# EAGLE library part ESP32_WEMOS_COMPACT (library Oded_Hand)
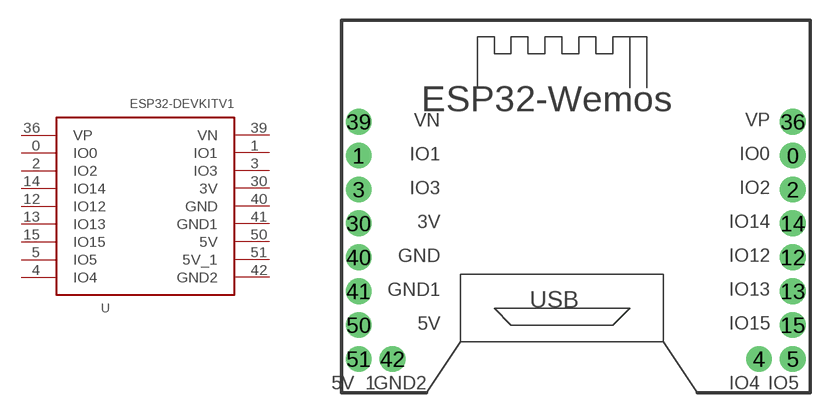
[diagram p4: symbol with the pads of ESP32_WEMOS_COMPACT; footprint ESP32_WEMOS_COMPACT]

Designator prefix -

## ESP32_WEMOS_COMPACT  [ESP32_WEMOS_COMPACT]
0  IO0
1  IO1
2  IO2
3  IO3
4  IO4
5  IO5
12  IO12
13  IO13
14  IO14
15  IO15
30  3V  pwr
36  VP
39  VN
40  GND  pwr
41  GND1  pwr
42  GND2  pwr
50  5V  pwr
51  5V_1  pwr

## Footprint ESP32_WEMOS_COMPACT (pad centres in mm)
drill 1 pad 1.93: 0 16.049,2.54; 1 -16.51,2.54; 2 16.049,0; 3 -16.51,0; 4 13.509,-12.7; 5 16.049,-12.7; 12 16.049,-5.08; 13 16.049,-7.62; 14 16.049,-2.54; 15 16.049,-10.16; 30 -16.51,-2.54; 36 16.049,5.08; 39 -16.51,5.08; 40 -16.51,-5.08; 41 -16.51,-7.62; 42 -13.97,-12.7; 50 -16.51,-10.16; 51 -16.51,-12.7